# Altium footprint library PCBdis.PcbLib: 13 footprints
Each footprint in its own frame and in the unit in brackets; x right, y up, seen from the top. Pads: shape width x height; smd on the part's side, far side on the other; paste and mask are expansions set on the pad; w line width, h text height; cw(c..) or ccw(c..) is an arc to the next point about the centre after c.
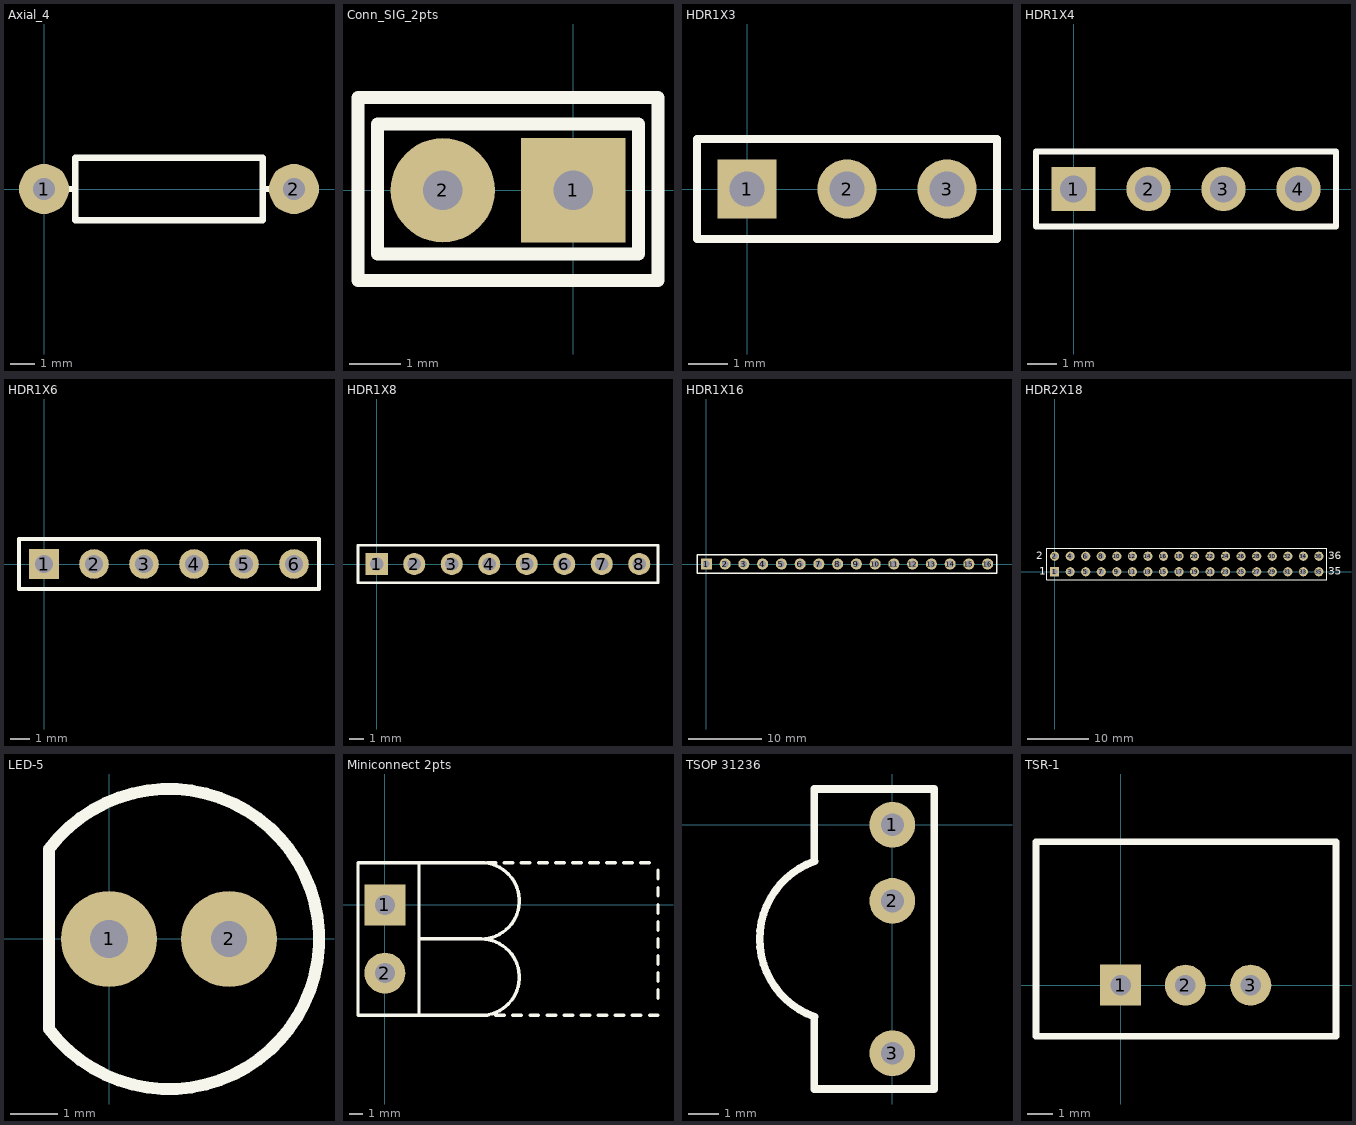
[diagram p0: the footprints below, top view; thin cyan lines are the x and y axes]

## Autocom HE14 - 3 - Coudé [mm] "Connecteur 3 points Autocom série HE14, coudé"
height 5.08

## Axial_4 [mil] "Résistance 1/4 ou 1/2 Watt"
pads (2):
  round 80 hole 35: 1(0,0) 2(400,0)
Top Overlay:
  lines w10: 0,0 50,0 ; 400,0 350,0 ; 50,0 50,50 350,50 350,0 ; 50,0 50,-50 350,-50 350,0
3D body: height 115.5, standoff -100, extent -12.2,-45.28 411.8,45.72

## Conn_SIG_2pts [mil] "connecteur pour composants déportés faible puissance"
pads (2):
  rect 80x80 hole 30: 1(0,0)
  round 80 hole 30: 2(-100,0)
Top Overlay:
  lines w10: -165,-69.02 65,-69.02 65,70.98 -165,70.98 -165,-69.02 ; -150,-49.02 -150,50.98 50,50.98 50,-49.02 -150,-49.02

## HDR1X3 [mm] "Connector; Header; 3 Position"
pads (3):
  rect 1.5x1.5 hole 0.9: 1(0,0)
  round 1.5 hole 0.9: 2(2.54,0) 3(5.08,0)
Top Overlay:
  lines w0.2: -1.27,-1.27 -1.27,1.27 6.35,1.27 6.35,-1.27 -1.27,-1.27

## HDR1X4 [mm] "Connector; Header; 4 Position"
pads (4):
  rect 1.5x1.5 hole 0.9: 1(0,0)
  round 1.5 hole 0.9: 2(2.54,0) 3(5.08,0) 4(7.62,0)
Top Overlay:
  lines w0.2: -1.27,-1.27 8.89,-1.27 8.89,1.27 -1.27,1.27 -1.27,-1.27

## HDR1X6 [mm] "Connector; Header; 6 Position"
pads (6):
  rect 1.5x1.5 hole 0.9: 1(0,0)
  round 1.5 hole 0.9: 2(2.54,0) 3(5.08,0) 4(7.62,0) 5(10.16,0) 6(12.7,0)
Top Overlay:
  lines w0.2: -1.27,-1.27 13.97,-1.27 13.97,1.27 -1.27,1.27 -1.27,-1.27

## HDR1X8 [mm] "Connector; Header; 8 Position"
pads (8):
  rect 1.5x1.5 hole 0.9: 1(0,0)
  round 1.5 hole 0.9: 2(2.54,0) 3(5.08,0) 4(7.62,0) 5(10.16,0) 6(12.7,0) 7(15.24,0) 8(17.78,0)
Top Overlay:
  lines w0.2: -1.27,-1.27 19.05,-1.27 19.05,1.27 -1.27,1.27 -1.27,-1.27

## HDR1X16 [mm] "Connector; Header; 16 Position"
pads (16):
  rect 1.5x1.5 hole 0.9: 1(0,0)
  round 1.5 hole 0.9: 2(2.54,0) 3(5.08,0) 4(7.62,0) 5(10.16,0) 6(12.7,0) 7(15.24,0) 8(17.78,0) 9(20.32,0) 10(22.86,0) 11(25.4,0) 12(27.94,0) 13(30.48,0) 14(33.02,0) 15(35.56,0) 16(38.1,0)
Top Overlay:
  lines w0.2: -1.27,-1.27 -1.27,1.27 0.635,1.27 39.37,1.27 39.37,-1.27 -1.27,-1.27

## HDR2X18 [mm] "Connector; Header; 18x2 Position"
pads (36):
  rect 1.5x1.5 hole 0.9: 1(0,0)
  round 1.5 hole 0.9: 2(0,2.54) 3(2.54,0) 4(2.54,2.54) 5(5.08,0) 6(5.08,2.54) 7(7.62,0) 8(7.62,2.54) 9(10.16,0) 10(10.16,2.54) 11(12.7,0) 12(12.7,2.54) 13(15.24,0) 14(15.24,2.54) 15(17.78,0) 16(17.78,2.54) 17(20.32,0) 18(20.32,2.54) 19(22.86,0) 20(22.86,2.54) 21(25.4,0) 22(25.4,2.54) 23(27.94,0) 24(27.94,2.54) 25(30.48,0) 26(30.48,2.54) 27(33.02,0) 28(33.02,2.54) 29(35.56,0) 30(35.56,2.54) 31(38.1,0) 32(38.1,2.54) 33(40.64,0) 34(40.64,2.54) 35(43.18,0) 36(43.18,2.54)
Top Overlay:
  lines w0.2: -1.27,-1.27 -1.27,3.81 44.45,3.81 44.45,-1.27 -1.27,-1.27
  text "2" at -3.048,2.032 h1.27
  text "1" at -2.54,-0.508 h1.27
  text "35" at 44.704,-0.508 h1.27
  text "36" at 44.704,2.032 h1.27

## LED-5 [mil] "Led trous traversant diamètre 5mm"
pads (2):
  round 80 hole 31.5: 1(0,0)
  round 80 hole 30: 2(100,0)
Top Overlay:
  lines w10: -50.01,-75.01 ccw(c49.99,-0.01) -50.01,74.99 -50.01,-75.01
3D body: height 484.75, standoff -97.93, extent -45.67,-118.11 167.72,118.88

## Miniconnect 2pts [mil] "Connecteur Entrelec Miniconnect 2 points"
pads (2):
  rect 120x120 hole 59.05: 1(0,0)
  round 120 hole 59.06: 2(0,-200)
Top Overlay:
  lines w10: 99.99,-323.62 99.99,123.62 ; 99.99,-99.03 281.89,-99.03 ; 274.99,-323.62 299.99,-323.62 ; 299.99,123.62 324.99,123.62 ; 324.99,-323.62 349.99,-323.62 ; 349.99,123.62 374.99,123.62 ; 374.99,-323.62 399.99,-323.62 ; 399.99,123.62 424.99,123.62 ; 424.99,-323.62 449.99,-323.62 ; 449.99,123.62 474.99,123.62 ; 474.99,-323.62 499.99,-323.62 ; 499.99,123.62 524.99,123.62 ; 524.99,-323.62 549.99,-323.62 ; 549.99,123.62 574.99,123.62 ; 574.99,-323.62 599.99,-323.62 ; 599.99,123.62 624.99,123.62 ; 624.99,-323.62 649.99,-323.62 ; 649.99,123.62 674.99,123.62 ; 674.99,-323.62 699.99,-323.62 ; 699.99,123.62 724.99,123.62 ; 724.99,-323.62 749.99,-323.62 ; 749.99,123.62 774.99,123.62 ; 774.99,-323.62 799.99,-323.62 ; 799.99,-274.03 799.99,-249.03 ; 799.99,-224.03 799.99,-199.03 ; 799.99,-174.03 799.99,-149.03 ; 799.99,-124.03 799.99,-99.03 ; 799.99,-74.03 799.99,-49.03 ; 799.99,-24.03 799.99,0.97 ; 799.99,25.97 799.99,50.97 ; 799.99,75.97 799.99,100.97 ; -78.74,-323.62 281.89,-323.62 ccw(c281.89,-211.81) 281.89,-100 ccw(c281.89,11.81) 281.89,123.62 -78.74,123.62 -78.74,-323.62
3D body: height 338.58, standoff -137.8, extent -78.74,-338.78 393.79,139.96

## TSOP 31236 [mil] "Récepteur IR 950nm"
height 492.13
pads (3):
  round 60 hole 30: 1(0,0) 2(0,-100) 3(0,-300)
Top Overlay:
  lines w10: -102.36,-252.36 -102.36,-346.85 55.12,-346.85 55.12,46.85 -102.36,46.85 -102.36,-47.64 ; -102.24,-252 cw(c-65.94,-150) -102.23,-48

## TSR-1 [mm] "DC/DC Converters  TSR-1 Series - Footprint"
pads (3):
  rect 1.6x1.6 hole 0.8: 1(0,0)
  round 1.6 hole 0.8: 2(2.525,0) 3(5.075,0)
Top Overlay:
  lines w0.254: -3.3,-2 8.4,-2 8.4,5.6 -3.3,5.6 -3.3,-2
3D body: height 10.2, standoff -4.1, extent -3.325,-1.99 8.375,5.625